# EAGLE library part RS485-AUTOBOARD-1 (library ED-MOD)
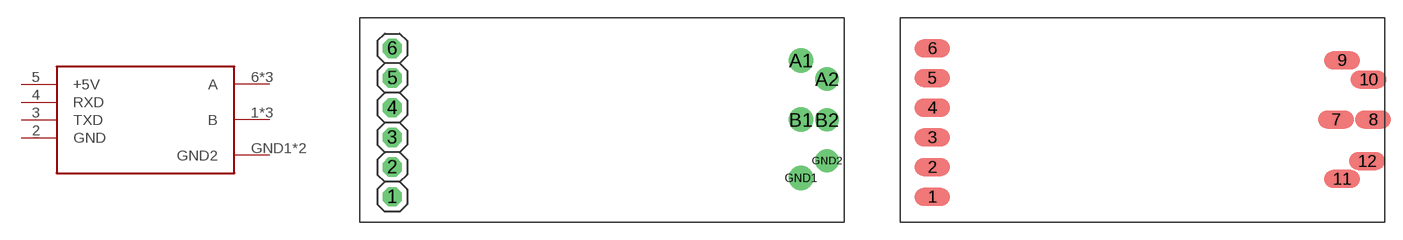
[diagram p0: symbol with the pads of RS485-AUTO-BRD-1; footprints RS485-AUTO-BRD-1, RS485-MOD-2]

Designator prefix -

## RS485-AUTOBOARD-1  [RS485-AUTO-BRD-1]
1  B
2  GND
3  TXD
4  RXD
5  +5V
6  A
A1  A
A2  A
B1  B
B2  B
GND1  GND2
GND2  GND2

## RS485-AUTOBOARD-1V2  [RS485-MOD-2]
2  GND
3  TXD
4  RXD
5  +5V
7  B
8  B
9  A
10  A
11  GND2
12  GND2

## Footprint RS485-AUTO-BRD-1 (pad centres in mm)
drill 1.1 octagon: 1 2.794,2.159; 2 2.794,4.699; 3 2.794,7.239; 4 2.794,9.779; 5 2.794,12.319; 6 2.794,14.859
drill 1.4: A1 37.78,13.834; B1 37.78,8.754; GND1 37.78,3.754
drill 1 pad 2: A2 40.009,12.247; B2 40.009,8.747; GND2 40.009,5.247

## Footprint RS485-MOD-2 (pad centres in mm)
smd 3.048 x 1.524: 1 -18.827,-5.461; 2 -18.827,-2.921; 3 -18.827,-0.381; 4 -18.827,2.159; 5 -18.827,4.699; 6 -18.827,7.239; 7 15.717,1.143; 8 18.892,1.143; 9 16.225,6.223; 10 18.511,4.572; 11 16.225,-3.937; 12 18.384,-2.413